# Altium footprint library Components - 12.03.22 - 19.12.PcbLib: 4 footprints
Each footprint in its own frame and in the unit in brackets; x right, y up, seen from the top. Pads: shape width x height; smd on the part's side, far side on the other; paste and mask are expansions set on the pad; w line width, h text height; cw(c..) or ccw(c..) is an arc to the next point about the centre after c.
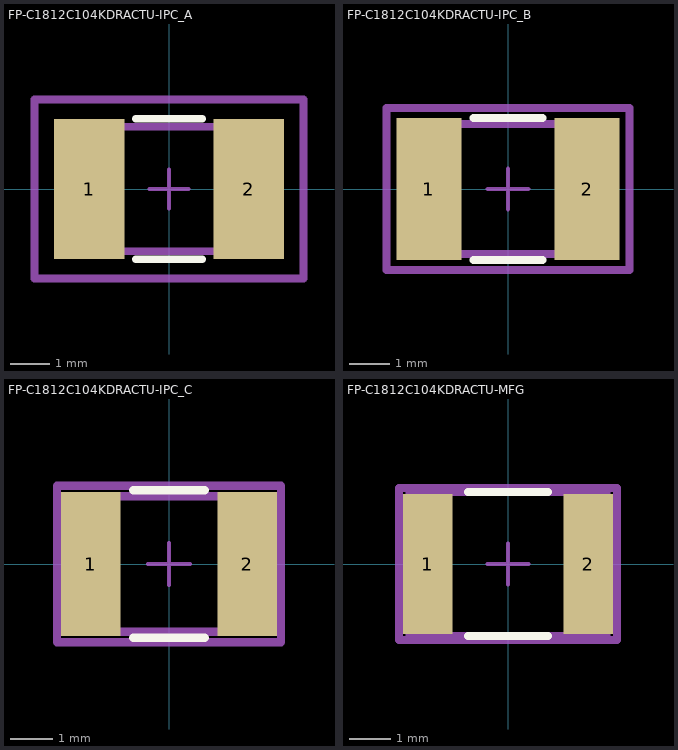
[diagram p0: the footprints below, top view; thin cyan lines are the x and y axes]

## FP-C1812C104KDRACTU-IPC_A [mm]
pads (2):
  rect 1.803x3.604 smd paste+0 mask+0: 1(-2.05,0) 2(2.05,0)
Top Overlay:
  lines w0.2: -0.849,-1.802 0.849,-1.802 ; -0.849,1.802 0.849,1.802
Top Assembly:
  lines w0.2: -3.452,-2.302 3.452,-2.302 3.452,2.302 -3.452,2.302 -3.452,-2.302
  text ".Designator" at 0,0.188 h1
Top 3D Body:
  lines w0.2: -2.25,-1.6 2.25,-1.6 2.25,1.6 -2.25,1.6 -2.25,-1.6
Top Courtyard:
  lines w0.2: -3.452,-2.302 3.452,-2.302 3.452,2.302 -3.452,2.302 -3.452,-2.302
Top Component Center:
  lines w0.1: -0.5,0 0.5,0 ; 0,-0.5 0,0.5
3D body "Cap_KEMET_C1812C104KDRACTU_eec.STEP": height 0.25, standoff 0, extent -3.452,-2.302 3.452,2.302

## FP-C1812C104KDRACTU-IPC_B [mm]
pads (2):
  rect 1.603x3.504 smd paste+0 mask+0: 1(-1.95,0) 2(1.95,0)
Top Overlay:
  lines w0.2: -0.849,-1.752 0.849,-1.752 ; -0.849,1.752 0.849,1.752
Top Assembly:
  lines w0.2: -3.002,-2.002 3.002,-2.002 3.002,2.002 -3.002,2.002 -3.002,-2.002
  text ".Designator" at 0,0.188 h1
Top 3D Body:
  lines w0.2: -2.25,-1.6 2.25,-1.6 2.25,1.6 -2.25,1.6 -2.25,-1.6
Top Courtyard:
  lines w0.2: -3.002,-2.002 3.002,-2.002 3.002,2.002 -3.002,2.002 -3.002,-2.002
Top Component Center:
  lines w0.1: -0.5,0 0.5,0 ; 0,-0.5 0,0.5
3D body "Cap_KEMET_C1812C104KDRACTU_eec.STEP": height 0.25, standoff 0, extent -3.002,-2.002 3.002,2.002

## FP-C1812C104KDRACTU-IPC_C [mm]
pads (2):
  rect 1.403x3.404 smd paste+0 mask+0: 1(-1.85,0) 2(1.85,0)
Top Overlay:
  lines w0.2: -0.849,-1.75 0.849,-1.75 ; -0.849,1.75 0.849,1.75
Top Assembly:
  lines w0.2: -2.652,-1.85 2.652,-1.85 2.652,1.85 -2.652,1.85 -2.652,-1.85
  text ".Designator" at 0,0.188 h1
Top 3D Body:
  lines w0.2: -2.25,-1.6 2.25,-1.6 2.25,1.6 -2.25,1.6 -2.25,-1.6
Top Courtyard:
  lines w0.2: -2.652,-1.85 2.652,-1.85 2.652,1.85 -2.652,1.85 -2.652,-1.85
Top Component Center:
  lines w0.1: -0.5,0 0.5,0 ; 0,-0.5 0,0.5
3D body "Cap_KEMET_C1812C104KDRACTU_eec.STEP": height 0.25, standoff 0, extent -2.652,-1.85 2.652,1.85

## FP-C1812C104KDRACTU-MFG [mm]
pads (2):
  rect 1.2x3.4 smd paste+0 mask+0: 1(-1.95,0) 2(1.95,0)
Top Overlay:
  lines w0.2: -0.975,-1.75 0.975,-1.75 ; -0.975,1.75 0.975,1.75
Top Assembly:
  lines w0.2: -2.65,-1.85 2.65,-1.85 2.65,1.85 -2.65,1.85 -2.65,-1.85
  text ".Designator" at 0,0.188 h1
Top 3D Body:
  lines w0.2: -2.4,-1.75 2.4,-1.75 2.4,1.75 -2.4,1.75 -2.4,-1.75
Top Courtyard:
  lines w0.2: -2.65,-1.85 2.65,-1.85 2.65,1.85 -2.65,1.85 -2.65,-1.85
Top Component Center:
  lines w0.1: -0.5,0 0.5,0 ; 0,-0.5 0,0.5
3D body "Cap_KEMET_C1812C104KDRACTU_eec.STEP": height 0.25, standoff 0, extent -2.65,-1.85 2.65,1.85